# Altium footprint library PCB.PcbLib: 22 footprints (part 1 of 2)
Each footprint in its own frame and in the unit in brackets; x right, y up, seen from the top. Pads: shape width x height; smd on the part's side, far side on the other; paste and mask are expansions set on the pad; w line width, h text height; cw(c..) or ccw(c..) is an arc to the next point about the centre after c.
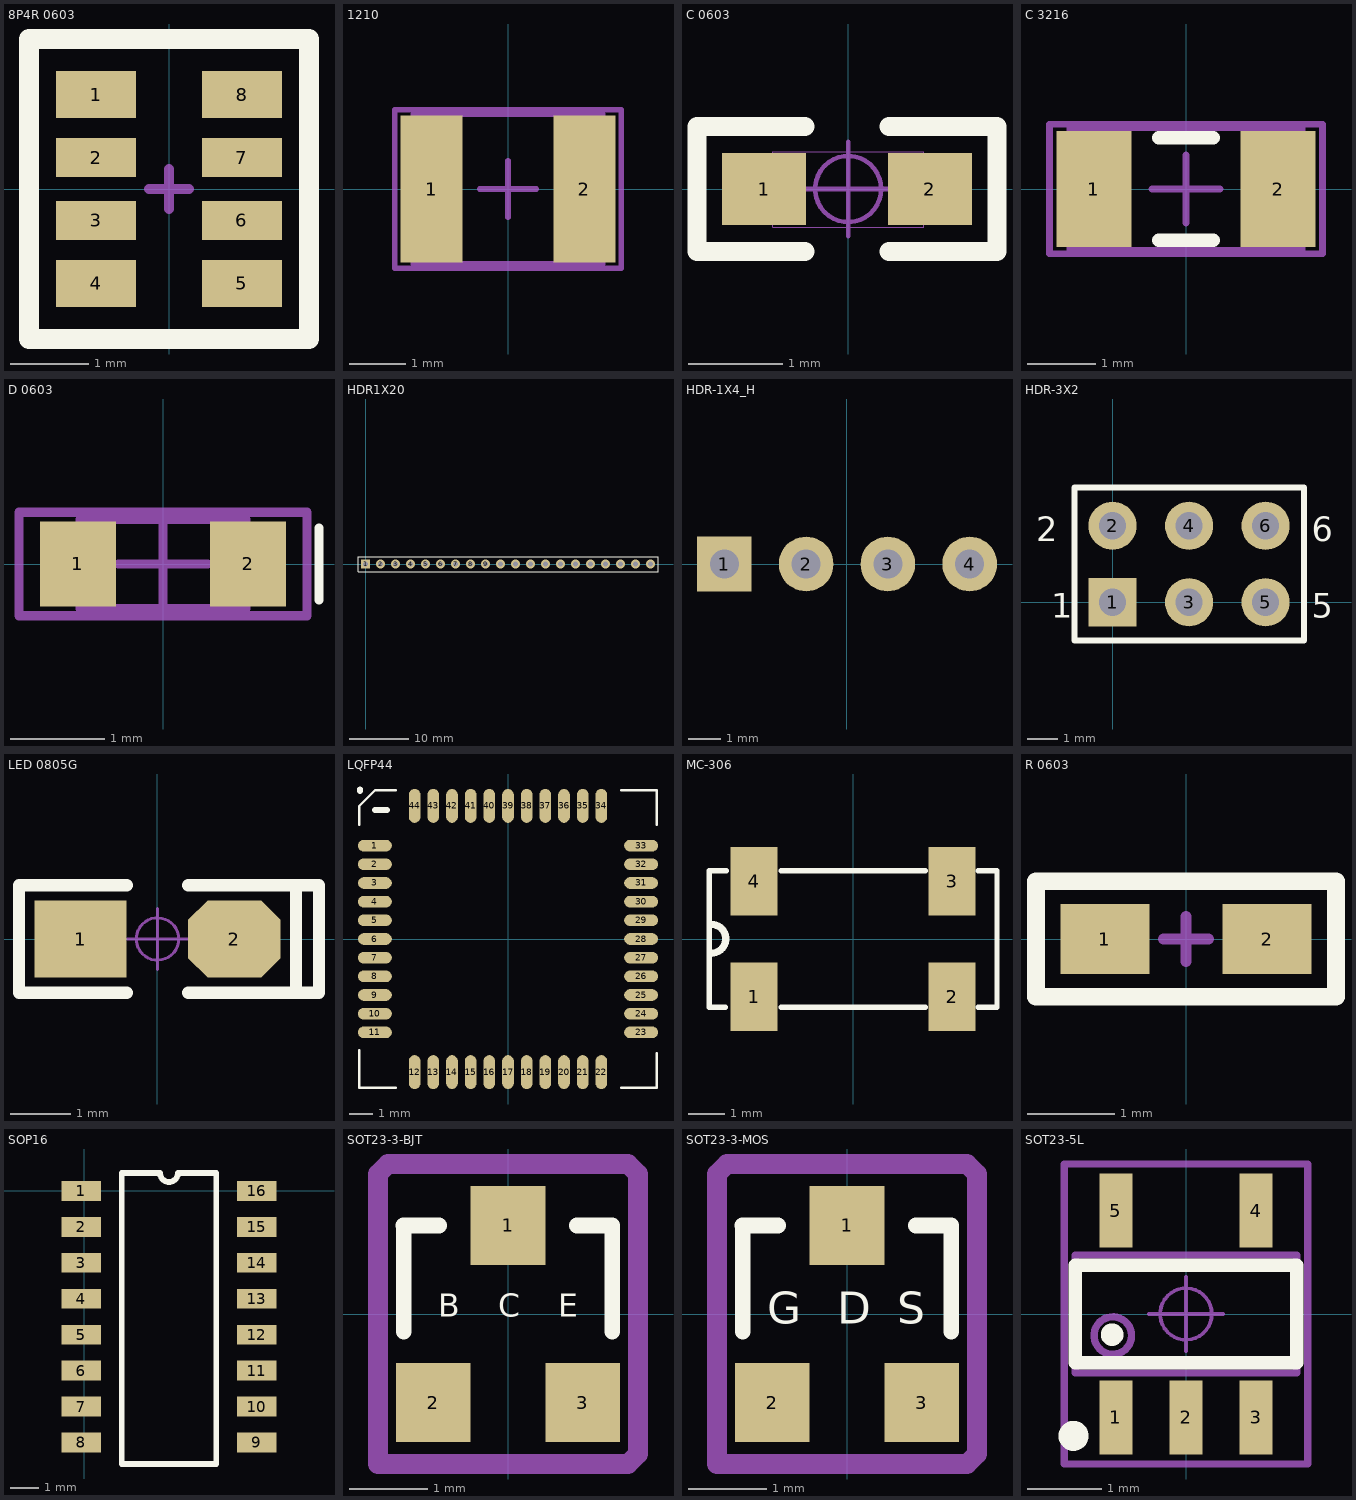
[diagram p0: the footprints below, top view; thin cyan lines are the x and y axes]

## 8P4R 0603 [mm] "1/10W贴片排阻"
pads (8):
  rect 1.016x0.6 smd: 1(-0.927,1.2) 4(-0.927,-1.2) 5(0.927,-1.2) 8(0.927,1.2)
  rect 1.016x0.5 smd: 2(-0.927,0.4) 3(-0.927,-0.4) 6(0.927,-0.4) 7(0.927,0.4)
Top Overlay:
  lines w0.254: -1.778,-1.905 -1.778,1.905 1.778,1.905 1.778,-1.905 -1.778,-1.905
Mechanical 15:
  lines w0.127: -0.254,0 0.254,0 ; 0,-0.254 0,0.254

## 1210 [mm] "Chip Resistor, Body 3.2x2.5mm, IPC High Density"
height 0.71
pads (2):
  rect 1.1x2.6 smd: 1(-1.35,0) 2(1.35,0)
Mechanical 13:
  lines w0.1: -1.675,-1.32 -1.675,1.32 1.675,1.32 1.675,-1.32 -1.675,-1.32
Mechanical 15:
  lines w0.1: -0.5,0 0.5,0 ; 0,-0.5 0,0.5 ; -2,-1.4 -2,1.4 2,1.4 2,-1.4 -2,-1.4
3D body: height 0.71, standoff 0, extent -1.675,-1.32 1.675,1.32

## C 0603 [mil] "无极性贴片电容"
pads (2):
  rect 35x30 smd: 1(-35,0) 2(34,0)
Top Overlay:
  lines w8: -18,-26 -63,-26 -63,26 -18,26 ; 17,-26 62,-26 62,26 17,26
Mechanical 13:
  lines w0.39: -31.5,-16 31.5,-16 31.5,15.5 -31.5,15.5 -31.5,-16
Mechanical 15:
  circle w1.97: c0,0 r13.78
  lines w1.97: -19.68,0 19.68,0 ; 0,-19.68 0,19.68
3D body "C 0603.STEP": height 31.89, standoff -0.39, extent -31.5,-16.14 31.5,16.14

## C 3216 [mm] "Chip Capacitor, Body 3.2x1.6mm, IPC High Density"
height 1.35
pads (2):
  rect 1.1x1.7 smd: 1(-1.35,0) 2(1.35,0)
Top Overlay:
  lines w0.2: -0.4,-0.75 0.4,-0.75 ; -0.4,0.75 0.4,0.75
Mechanical 13:
  lines w0.1: -1.7,-0.9 -1.7,0.9 1.7,0.9 1.7,-0.9 -1.7,-0.9
Mechanical 15:
  lines w0.1: -0.5,0 0.5,0 ; 0,-0.5 0,0.5 ; -2,-0.95 -2,0.95 2,0.95 2,-0.95 -2,-0.95
3D body: height 1.35, standoff 0, extent -1.7,-0.9 1.7,0.9

## D 0603 [mm] "Chip Capacitor, Body 1.6x0.8mm, IPC High Density"
height 1.3
pads (2):
  rect 0.8x0.9 smd: 1(-0.9,0) 2(0.9,0)
Top Overlay:
  lines w0.1: 1.651,-0.381 1.651,0.381
Mechanical 13:
  lines w0.1: -0.875,-0.475 -0.875,0.475 0.875,0.475 0.875,-0.475 -0.875,-0.475
Mechanical 15:
  lines w0.1: -0.475,0 0.475,0 ; 0,-0.475 0,0.475 ; -1.524,-0.55 -1.524,0.55 1.524,0.55 1.524,-0.55 -1.524,-0.55
3D body: height 1.3, standoff 0, extent -0.875,-0.475 0.875,0.475

## HDR1X20 [mm] "Connector; Header; 20 Position"
height 4.32
pads (20):
  rect 1.5x1.5 hole 0.9: 1(0,0)
  round 1.5 hole 0.9: 2(2.54,0) 3(5.08,0) 4(7.62,0) 5(10.16,0) 6(12.7,0) 7(15.24,0) 8(17.78,0) 9(20.32,0) 10(22.86,0) 11(25.4,0) 12(27.94,0) 13(30.48,0) 14(33.02,0) 15(35.56,0) 16(38.1,0) 17(40.64,0) 18(43.18,0) 19(45.72,0) 20(48.26,0)
Top Overlay:
  lines w0.2: -1.27,-1.27 49.53,-1.27 49.53,1.27 0.635,1.27 -1.27,1.27 -1.27,-1.27

## HDR-1X4_H [mm] "弯脚排针，4脚"
pads (4):
  rect 1.7x1.7 hole 0.9: 1(-3.81,0)
  round 1.7 hole 0.9: 2(-1.27,0) 3(1.27,0) 4(3.81,0)
3D body "HDR2.54-1P_H.STEP": height 4.85, standoff -3, extent 2.54,-7.77 5.08,1.27
3D body "HDR2.54-1P_H.STEP": height 4.85, standoff -3, extent 0,-7.77 2.54,1.27
3D body "HDR2.54-1P_H.STEP": height 4.85, standoff -3, extent -2.54,-7.77 0,1.27
3D body "HDR2.54-1P_H.STEP": height 4.85, standoff -3, extent -5.08,-7.77 -2.54,1.27

## HDR-3X2 [mm] "双排排针，3x2脚"
pads (6):
  rect 1.6x1.6 hole 0.9: 1(0,0)
  round 1.6 hole 0.9: 2(0,2.54) 3(2.54,0) 4(2.54,2.54) 5(5.08,0) 6(5.08,2.54)
Top Overlay:
  lines w0.2: 1.482,-1.27 6.35,-1.27 ; 6.35,-1.27 -1.27,-1.27 -1.27,3.81 6.35,3.81 6.35,-1.27
  text "1" at -2.032,-0.508 h0.81
  text "2" at -2.54,2.032 h0.81
  text "5" at 6.604,-0.508 h0.81
  text "6" at 6.604,2.032 h0.81
3D body "HDR2.54-1x2P.STEP": height 8.5, standoff -3, extent 1.27,-1.27 3.81,3.81
3D body "HDR2.54-1x2P.STEP": height 8.5, standoff -3, extent -1.27,-1.27 1.27,3.81
3D body "HDR2.54-1x2P.STEP": height 8.5, standoff -3, extent 3.81,-1.27 6.35,3.81

## LED 0805G [mil] "绿色0805LED"
pads (2):
  rect 60x50 smd: 1(-50,0)
  oct 60x50 smd: 2(50,0)
Top Overlay:
  lines w8: -20,-35 -90,-35 -90,35 -20,35 ; 20,-35 105,-35 105,35 20,35 ; 90,-35 90,35
Mechanical 15:
  circle w1.97: c0,0 r13.78
  lines w1.97: -19.68,0 19.68,0 ; 0,-19.68 0,19.68
3D body "LED 0805玻璃罩.STEP": height 31.69, standoff 12.01, extent -29.49,-24.65 29.49,24.65
3D body "LED 0805-G.STEP": height 26.33, standoff -0.16, extent -39.37,-24.65 39.37,24.65

## LQFP44 [mm]
pads (44):
  oval 1.45x0.5 smd: 1(-5.72,4.02) 2(-5.72,3.22) 3(-5.72,2.42) 4(-5.72,1.62) 5(-5.72,0.82) 6(-5.72,0.02) 7(-5.72,-0.78) 8(-5.72,-1.58) 9(-5.72,-2.38) 10(-5.72,-3.18) 11(-5.72,-3.98) 23(5.68,-3.98) 24(5.68,-3.18) 25(5.68,-2.38) 26(5.68,-1.58) 27(5.68,-0.78) 28(5.68,0.02) 29(5.68,0.82) 30(5.68,1.62) 31(5.68,2.42) 32(5.68,3.22) 33(5.68,4.02)
  oval 0.5x1.45 smd: 12(-4.02,-5.68) 13(-3.22,-5.68) 14(-2.42,-5.68) 15(-1.62,-5.68) 16(-0.82,-5.68) 17(-0.02,-5.68) 18(0.78,-5.68) 19(1.58,-5.68) 20(2.38,-5.68) 21(3.18,-5.68) 22(3.98,-5.68) 34(3.98,5.72) 35(3.18,5.72) 36(2.38,5.72) 37(1.58,5.72) 38(0.78,5.72) 39(-0.02,5.72) 40(-0.82,5.72) 41(-1.62,5.72) 42(-2.42,5.72) 43(-3.22,5.72) 44(-4.02,5.72)
Top Overlay:
  lines w0.1: -6.395,-4.743 -6.395,-6.355 -4.831,-6.355 ; -6.395,4.909 -6.395,5.72 -5.72,6.395 -4.831,6.395 ; 4.821,-6.355 6.355,-6.355 6.355,-4.87 ; 4.821,6.395 6.355,6.395 6.355,4.909
  lines w0.254: -6.355,6.355 -6.355,6.433 ; -5.72,5.544 -5.212,5.544

## MC-306 [mm]
height 1.6
pads (4):
  rect 1.3x1.9 smd: 1(-2.75,-1.6) 2(2.75,-1.6) 3(2.75,1.6) 4(-2.75,1.6)
Top Overlay:
  lines w0.152: -3.556,-1.9 -4,-1.9 -4,1.9 -3.531,1.9 ; -2,-1.9 2,-1.9 ; -2,1.9 2,1.9 ; 3.48,-1.9 4,-1.9 4,1.9 3.48,1.9
  lines w0.2: -3.937,-0.394 ccw(c-3.937,0.006) -3.937,0.406

## R 0603 [mil] "1/10W贴片电阻"
pads (2):
  rect 40x31.5 smd: 1(-36.5,0) 2(36.5,0)
Top Overlay:
  lines w8: -67.5,-26 67.5,-26 67.5,26 -67.5,26 -67.5,-26
Mechanical 15:
  lines w5: -10,0 10,0 ; 0,-10 0,10
3D body "R 0603.STEP": height 15.79, standoff -0.13, extent -31.5,-15.75 31.5,15.75

## SOP16 [mm]
pads (16):
  rect 1.4x0.7 smd: 1(-0.1,0) 2(-0.1,-1.27) 3(-0.1,-2.54) 4(-0.1,-3.81) 5(-0.1,-5.08) 6(-0.1,-6.35) 7(-0.1,-7.62) 8(-0.1,-8.89) 9(6.1,-8.89) 10(6.1,-7.62) 11(6.1,-6.35) 12(6.1,-5.08) 13(6.1,-3.81) 14(6.1,-2.54) 15(6.1,-1.27) 16(6.1,0)
Top Overlay:
  lines w0.2: 1.335,-9.652 1.335,0.635 2.682,0.635 ccw(c3,0.635) 3.317,0.635 4.665,0.635 4.665,-9.652 1.335,-9.652

## SOT23-3-BJT [mm] "SOT-23; 3 Leads; Body 3.0 x 2.5 mm, inc. leads (LxW max)"
height 1.2
pads (3):
  rect 0.95x1 smd: 1(0,1.125) 2(-0.95,-1.125) 3(0.95,-1.125)
Top Overlay:
  lines w0.2: -1.328,1.125 -0.875,1.125 ; -1.325,-0.225 -1.325,1.125 ; 0.875,1.125 1.325,1.125 1.325,-0.225
  text "C" at -0.127,-0.127 h0.5
  text "E" at 0.635,-0.127 h0.5
  text "B" at -0.889,-0.127 h0.5
Mechanical 15:
  lines w0.254: -1.651,-1.905 1.524,-1.905 1.651,-1.778 1.651,1.778 1.524,1.905 -1.524,1.905 -1.651,1.778 -1.651,-1.651 -1.651,-1.905

## SOT23-3-MOS [mm] "SOT-23; 3 Leads; Body 3.0 x 2.5 mm, inc. leads (LxW max)"
height 1.2
pads (3):
  rect 0.95x1 smd: 1(0,1.125) 2(-0.95,-1.125) 3(0.95,-1.125)
Top Overlay:
  lines w0.2: -1.328,1.125 -0.875,1.125 ; -1.325,-0.225 -1.325,1.125 ; 0.875,1.125 1.325,1.125 1.325,-0.225
  text "D" at -0.127,-0.254 h0.7
  text "S" at 0.635,-0.254 h0.7
  text "G" at -1.016,-0.254 h0.7
Mechanical 15:
  lines w0.254: -1.651,-1.905 1.524,-1.905 1.651,-1.778 1.651,1.778 1.524,1.905 -1.524,1.905 -1.651,1.778 -1.651,-1.651 -1.651,-1.905

## SOT23-5L [mm] "3x1.6x1.1mm(长宽高)"
pads (5):
  rect 0.45x1 smd: 1(-0.95,-1.4) 2(0,-1.4) 3(0.95,-1.4) 4(0.95,1.4) 5(-0.95,1.4)
Top Overlay:
  circle w0.254: c-1.001,-0.279 r0.025
  circle w0.254: c-1.524,-1.651 r0.076
  lines w0.178: -1.5,-0.66 1.5,-0.66 1.5,0.66 -1.5,0.66 -1.5,-0.66
Mechanical 13:
  circle w0.1: c-0.992,-0.292 r0.254
  lines w0.1: -1.5,-0.8 -1.5,0.8 1.5,0.8 1.5,-0.8 -1.5,-0.8
Mechanical 15:
  circle w0.05: c0,0 r0.35
  lines w0.05: -0.5,0 0.5,0 ; 0,-0.5 0,0.5
  lines w0.1: -1.651,-2.032 -1.651,2.032 1.651,2.032 1.651,-2.032 -1.651,-2.032
3D body "SOT23-5.STEP": height 1.15, standoff -0.03, extent -1.5,-1.403 1.5,1.403